# Altium schematic symbol library SCH - POWER - MODULE - MPS MPM3550E.SchLib: 1 symbol
Pins are listed as number, name and electrical type; pins without a type are passive.

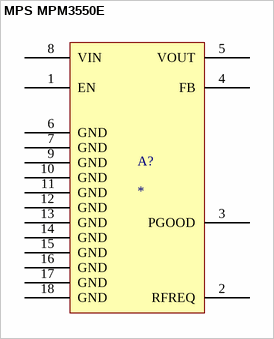
[diagram p0: symbol MPS MPM3550E]

## MPS MPM3550E
designator A?
pins: 1 EN, 2 RFREQ, 3 PGOOD, 4 FB, 5 VOUT, 6 GND, 7 GND, 8 VIN, 9 GND, 10 GND, 11 GND, 12 GND, 13 GND, 14 GND, 15 GND, 16 GND, 17 GND, 18 GND